# EAGLE library part TS3A4741DCNR (library SamacSys_Parts)
Texas Instruments TS3A4741DCNR, Multiplexer Switch IC Dual SPST, 1.6 3.6 V, 8-pin SOT-23 Source: Datasheet <http://www.ti.com.cn/cn/lit/ds/symlink/ts3a4741.pdf>
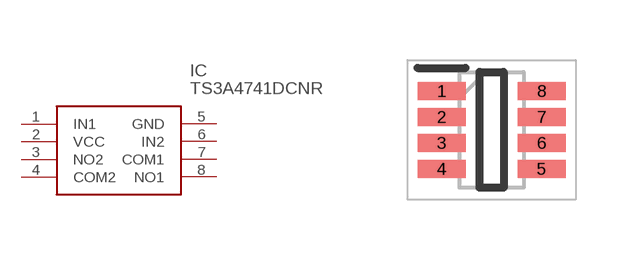
[diagram p36: symbol with the pads of SOT65P280X145-8N; footprint SOT65P280X145-8N]

Designator prefix IC

## TS3A4741DCNR (DESCRIPTION: Texas Instruments TS3A4741DCNR, Multiplexer Switch IC Dual SPST, 1.6 3.6 V, 8-pin SOT-23; HEIGHT: 1.45mm; MANUFACTURER_NAME: Texas Instruments; MANUFACTURER_PART_NUMBER: TS3A4741DCNR; MOUSER_PART_NUMBER: 595-TS3A4741DCNR; MOUSER_PRICE-STOCK: https://www.mouser.co.uk/ProductDetail/Texas-Instruments/TS3A4741DCNR?qs=IUbkBnfnSQInOLdl%252B2onYQ%3D%3D)  [SOT65P280X145-8N]
1  IN1  in
2  VCC  pwr
3  NO2
4  COM2
5  GND  pwr
6  IN2  in
7  COM1
8  NO1

## Footprint SOT65P280X145-8N (pad centres in mm)
DCN (R-PDSO-G8)
smd 1.2 x 0.45: 1 -1.25,0.975; 2 -1.25,0.325; 3 -1.25,-0.325; 4 -1.25,-0.975; 5 1.25,-0.975; 6 1.25,-0.325; 7 1.25,0.325; 8 1.25,0.975